# EAGLE library part X50 (library connectors)
Connector 50 pins
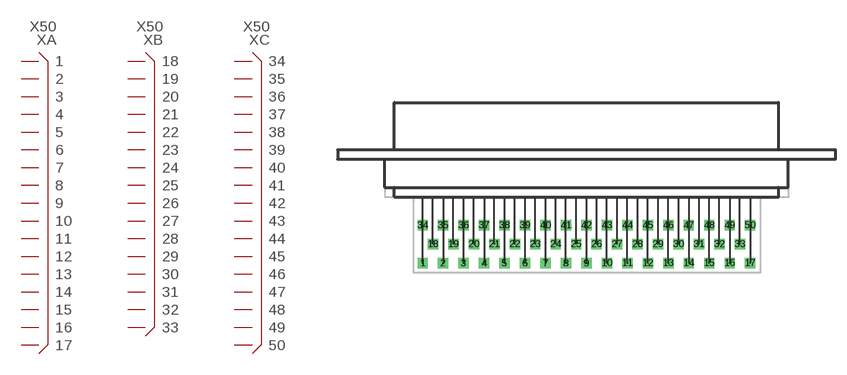
[diagram p65: symbol with the pads of X50DSUB1; footprint X50DSUB1]

Designator prefix X; gates A=X50A B=X50B C=X50C

## X50  [X50DSUB1]
1  A:1
2  A:2
3  A:3
4  A:4
5  A:5
6  A:6
7  A:7
8  A:8
9  A:9
10  A:10
11  A:11
12  A:12
13  A:13
14  A:14
15  A:15
16  A:16
17  A:17
18  B:18
19  B:19
20  B:20
21  B:21
22  B:22
23  B:23
24  B:24
25  B:25
26  B:26
27  B:27
28  B:28
29  B:29
30  B:30
31  B:31
32  B:32
33  B:33
34  C:34
35  C:35
36  C:36
37  C:37
38  C:38
39  C:39
40  C:40
41  C:41
42  C:42
43  C:43
44  C:44
45  C:45
46  C:46
47  C:47
48  C:48
49  C:49
50  C:50

## Footprint X50DSUB1 (pad centres in mm)
Connector 50 pins, D-Sub, angled mounting
drill 0.813 pad 1.397 square: 1 0,0; 2 2.75,0; 3 5.5,0; 4 8.25,0; 5 11,0; 6 13.75,0; 7 16.5,0; 8 19.25,0; 9 22,0; 10 24.75,0; 11 27.5,0; 12 30.25,0; 13 33,0; 14 35.75,0; 15 38.5,0; 16 41.25,0; 17 44,0; 18 1.375,2.54; 19 4.125,2.54; 20 6.875,2.54; 21 9.625,2.54; 22 12.375,2.54; 23 15.125,2.54; 24 17.875,2.54; 25 20.625,2.54; 26 23.375,2.54; 27 26.125,2.54; 28 28.875,2.54; 29 31.625,2.54; 30 34.375,2.54; 31 37.125,2.54; 32 39.875,2.54; 33 42.625,2.54; 34 0,5.08; 35 2.75,5.08; 36 5.5,5.08; 37 8.25,5.08; 38 11,5.08; 39 13.75,5.08; 40 16.5,5.08; 41 19.25,5.08; 42 22,5.08; 43 24.75,5.08; 44 27.5,5.08; 45 30.25,5.08; 46 33,5.08; 47 35.75,5.08; 48 38.5,5.08; 49 41.25,5.08; 50 44,5.08